# Altium footprint library TI-TSSOP-14.PcbLib: 1 footprints
Each footprint in its own frame and in the unit in brackets; x right, y up, seen from the top. Pads: shape width x height; smd on the part's side, far side on the other; paste and mask are expansions set on the pad; w line width, h text height; cw(c..) or ccw(c..) is an arc to the next point about the centre after c.
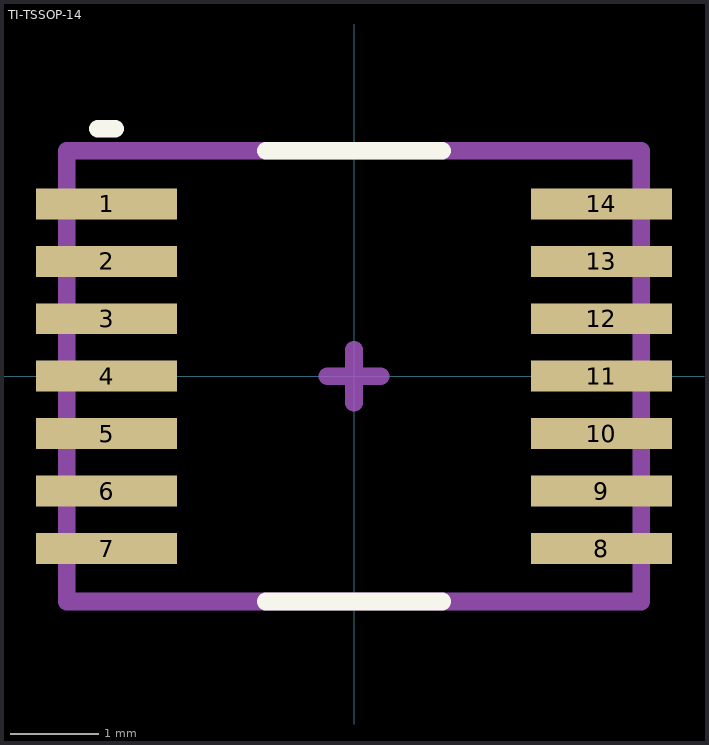
[diagram p0: the footprint, top view; thin cyan lines are the x and y axes]

## TI-TSSOP-14 [mm]
pads (14):
  rect 1.6x0.35 smd mask+0: 1(-2.8,1.95) 2(-2.8,1.3) 3(-2.8,0.65) 4(-2.8,0) 5(-2.8,-0.65) 6(-2.8,-1.3) 7(-2.8,-1.95) 8(2.8,-1.95) 9(2.8,-1.3) 10(2.8,-0.65) 11(2.8,0) 12(2.8,0.65) 13(2.8,1.3) 14(2.8,1.95)
Top Overlay:
  lines w0.2: -2.9,2.8 -2.7,2.8 ; -1,-2.55 1,-2.55 ; -1,2.55 1,2.55
Mechanical 13 (Mech13):
  lines w0.2: -3.25,-2.55 -3.25,2.55 3.25,2.55 3.25,-2.55 -3.25,-2.55
Mechanical 15 (Mech15):
  lines w0.2: -0.3,0 0,0 ; 0,-0.3 0,0 ; 0,0.3 0,0 ; 0.3,0 0,0
3D body "TI-TSSOP-14.STEP": height 1.2, standoff 0, extent -3.2,-2.5 3.2,2.5